# Altium schematic symbol library SMBJ33CA.SchLib: 1 symbol
Pins are listed as number, name and electrical type; pins without a type are passive.

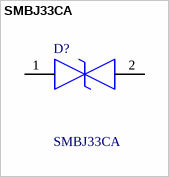
[diagram p0: symbol SMBJ33CA]

## SMBJ33CA
designator D?
ESD Suppressors / TVS Diodes 33volts 5uA 11.3 Amps Bi-Dir; Manufacturer_Name: Bourns; Geometry.Height: 2.44mm; Mouser Part Number: 652-SMBJ33CA; Mouser Price/Stock: https://www.mouser.co.uk/ProductDetail/Bourns/SMBJ33CA?qs=d7fLapxX37Gs5v3ODWwxUA%3D%3D; Manufacturer_Part_Number: SMBJ33CA; Datasheet Link: https://www.bourns.com/docs/Product-Datasheets/SMBJ.pdf
footprint DIONM5436X244N
pins: 1, 2